# EAGLE library part LTC2758ACLXPBF (library custom_dzmitry)
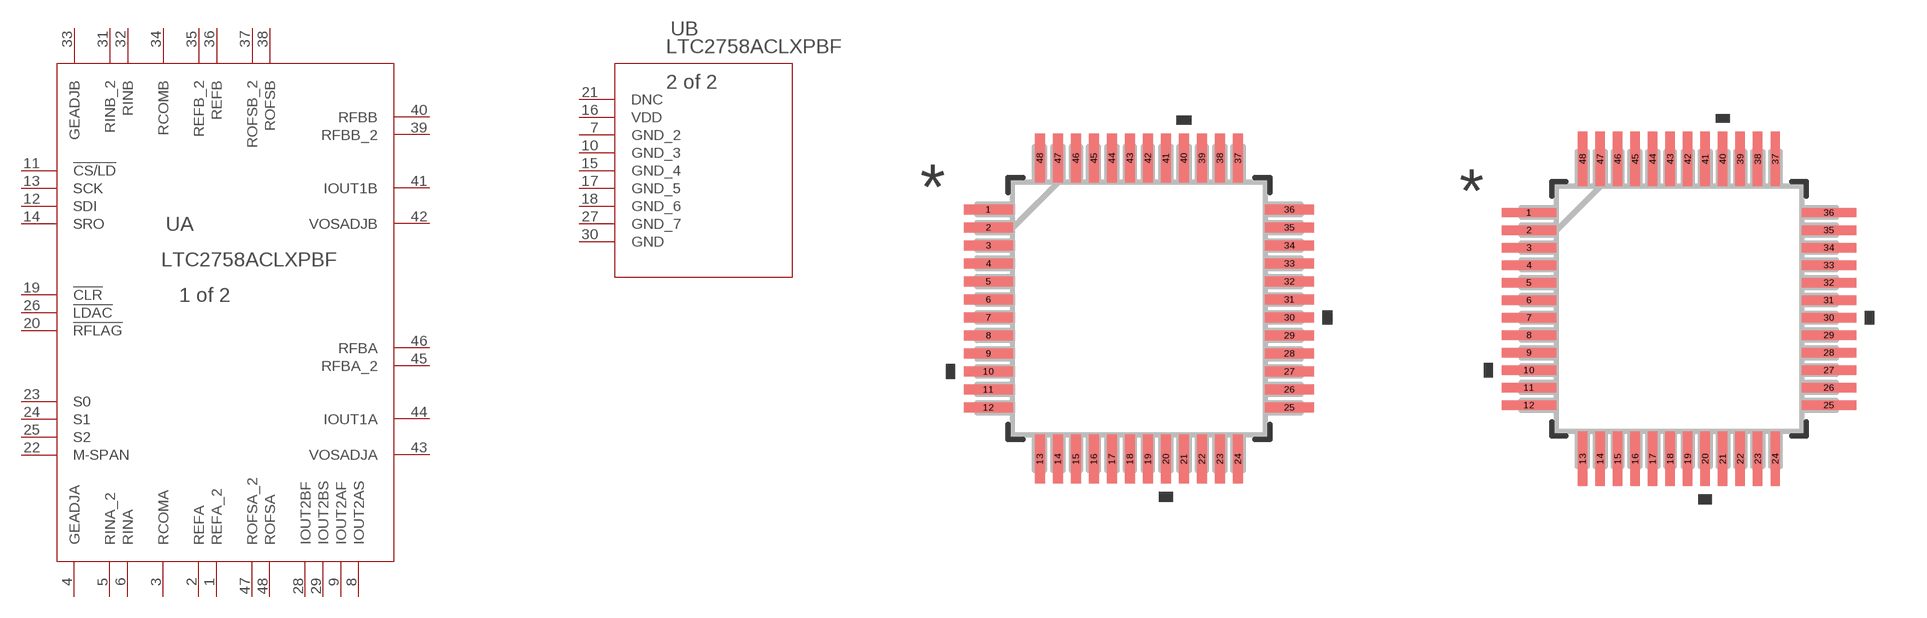
[diagram p5: symbol with the pads of LQFP-48_LX_LIT; footprints LQFP-48_LX_LIT, LQFP-48_LX_LIT-M]

Designator prefix U; gates A=LTC2758ACLXPBF B=LTC2758ACLXPBF_A

## LTC2758ACLXPBF (BUILT_BY: EMA_UL_Team; MANUFACTURER_PART_NUMBER: LTC2758ACLX#PBF; SOURCELIBRARY: LinearTech_2016-05-13_5; VENDOR: Linear Technology)  [LQFP-48_LX_LIT]
1  A:REFA_2  in
2  A:REFA  in
3  A:RCOMA  pas
4  A:GEADJA  pas
5  A:RINA_2  in
6  A:RINA  in
7  B:GND_2  pwr
8  A:IOUT2AS  out
9  A:IOUT2AF  out
10  B:GND_3  pwr
11  A:!CS/LD  in
12  A:SDI  in
13  A:SCK  in
14  A:SRO  out
15  B:GND_4  pwr
16  B:VDD  pwr
17  B:GND_5  pwr
18  B:GND_6  pwr
19  A:!CLR  in
20  A:!RFLAG  out
21  B:DNC  nc
22  A:M-SPAN  pas
23  A:S0  in
24  A:S1  in
25  A:S2  in
26  A:!LDAC  in
27  B:GND_7  pwr
28  A:IOUT2BF  out
29  A:IOUT2BS  out
30  B:GND  pwr
31  A:RINB_2  in
32  A:RINB  in
33  A:GEADJB  out
34  A:RCOMB  pas
35  A:REFB_2  in
36  A:REFB  in
37  A:ROFSB_2  out
38  A:ROFSB  out
39  A:RFBB_2  out
40  A:RFBB  out
41  A:IOUT1B  out
42  A:VOSADJB  pas
43  A:VOSADJA  pas
44  A:IOUT1A  out
45  A:RFBA_2  out
46  A:RFBA  out
47  A:ROFSA_2  out
48  A:ROFSA  out

## LTC2758ACLXPBFLQFP-48_LX_LIT-M (BUILT_BY: EMA_UL_Team; MANUFACTURER_PART_NUMBER: LTC2758ACLX#PBF; SOURCELIBRARY: LinearTech_2016-05-13_5; VENDOR: Linear Technology)  [LQFP-48_LX_LIT-M]
Pads as for LQFP-48_LX_LIT

## LTC2758ACLXPBFLQFP-48_LX_LIT-L (BUILT_BY: EMA_UL_Team; MANUFACTURER_PART_NUMBER: LTC2758ACLX#PBF; SOURCELIBRARY: LinearTech_2016-05-13_5; VENDOR: Linear Technology)  [LQFP-48_LX_LIT-L]
Pads as for LQFP-48_LX_LIT

## Footprint LQFP-48_LX_LIT (pad centres in mm)
smd 1.356 x 0.27: 1 -4.178,2.75; 2 -4.178,2.25; 3 -4.178,1.75; 4 -4.178,1.25; 5 -4.178,0.75; 6 -4.178,0.25; 7 -4.178,-0.25; 8 -4.178,-0.75; 9 -4.178,-1.25; 10 -4.178,-1.75; 11 -4.178,-2.25; 12 -4.178,-2.75; 25 4.178,-2.75; 26 4.178,-2.25; 27 4.178,-1.75; 28 4.178,-1.25; 29 4.178,-0.75; 30 4.178,-0.25; 31 4.178,0.25; 32 4.178,0.75; 33 4.178,1.25; 34 4.178,1.75; 35 4.178,2.25; 36 4.178,2.75
smd 0.27 x 1.356: 13 -2.75,-4.178; 14 -2.25,-4.178; 15 -1.75,-4.178; 16 -1.25,-4.178; 17 -0.75,-4.178; 18 -0.25,-4.178; 19 0.25,-4.178; 20 0.75,-4.178; 21 1.25,-4.178; 22 1.75,-4.178; 23 2.25,-4.178; 24 2.75,-4.178; 37 2.75,4.178; 38 2.25,4.178; 39 1.75,4.178; 40 1.25,4.178; 41 0.75,4.178; 42 0.25,4.178; 43 -0.25,4.178; 44 -0.75,4.178; 45 -1.25,4.178; 46 -1.75,4.178; 47 -2.25,4.178; 48 -2.75,4.178

## Footprint LQFP-48_LX_LIT-M (pad centres in mm)
smd 1.559 x 0.27: 1 -4.279,2.75; 2 -4.279,2.25; 3 -4.279,1.75; 4 -4.279,1.25; 5 -4.279,0.75; 6 -4.279,0.25; 7 -4.279,-0.25; 8 -4.279,-0.75; 9 -4.279,-1.25; 10 -4.279,-1.75; 11 -4.279,-2.25; 12 -4.279,-2.75; 25 4.279,-2.75; 26 4.279,-2.25; 27 4.279,-1.75; 28 4.279,-1.25; 29 4.279,-0.75; 30 4.279,-0.25; 31 4.279,0.25; 32 4.279,0.75; 33 4.279,1.25; 34 4.279,1.75; 35 4.279,2.25; 36 4.279,2.75
smd 0.27 x 1.559: 13 -2.75,-4.279; 14 -2.25,-4.279; 15 -1.75,-4.279; 16 -1.25,-4.279; 17 -0.75,-4.279; 18 -0.25,-4.279; 19 0.25,-4.279; 20 0.75,-4.279; 21 1.25,-4.279; 22 1.75,-4.279; 23 2.25,-4.279; 24 2.75,-4.279; 37 2.75,4.279; 38 2.25,4.279; 39 1.75,4.279; 40 1.25,4.279; 41 0.75,4.279; 42 0.25,4.279; 43 -0.25,4.279; 44 -0.75,4.279; 45 -1.25,4.279; 46 -1.75,4.279; 47 -2.25,4.279; 48 -2.75,4.279

## Footprint LQFP-48_LX_LIT-L (pad centres in mm)
smd 1.152 x 0.219: 1 -4.076,2.75; 2 -4.076,2.25; 3 -4.076,1.75; 4 -4.076,1.25; 5 -4.076,0.75; 6 -4.076,0.25; 7 -4.076,-0.25; 8 -4.076,-0.75; 9 -4.076,-1.25; 10 -4.076,-1.75; 11 -4.076,-2.25; 12 -4.076,-2.75; 25 4.076,-2.75; 26 4.076,-2.25; 27 4.076,-1.75; 28 4.076,-1.25; 29 4.076,-0.75; 30 4.076,-0.25; 31 4.076,0.25; 32 4.076,0.75; 33 4.076,1.25; 34 4.076,1.75; 35 4.076,2.25; 36 4.076,2.75
smd 0.219 x 1.152: 13 -2.75,-4.076; 14 -2.25,-4.076; 15 -1.75,-4.076; 16 -1.25,-4.076; 17 -0.75,-4.076; 18 -0.25,-4.076; 19 0.25,-4.076; 20 0.75,-4.076; 21 1.25,-4.076; 22 1.75,-4.076; 23 2.25,-4.076; 24 2.75,-4.076; 37 2.75,4.076; 38 2.25,4.076; 39 1.75,4.076; 40 1.25,4.076; 41 0.75,4.076; 42 0.25,4.076; 43 -0.25,4.076; 44 -0.75,4.076; 45 -1.25,4.076; 46 -1.75,4.076; 47 -2.25,4.076; 48 -2.75,4.076